# Altium schematic symbol library T-Transformer.SCHLIB: 3 symbols
Pins are listed as number, name and electrical type; pins without a type are passive.

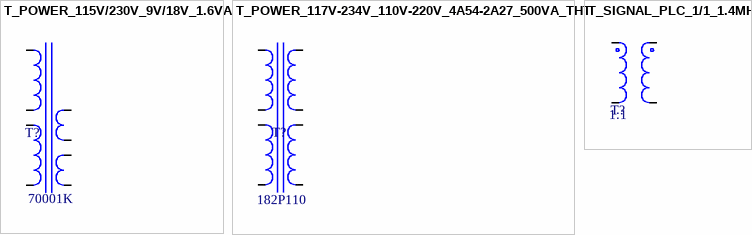
[diagram p0: symbols T_POWER_115V/230V_9V/18V_1.6VA to T_SIGNAL_PLC_1/1_1.4MH]

## T_POWER_115V/230V_9V/18V_1.6VA
designator T?  Type: 70001K  (hidden comment: T_POWER_115V/230V_9V/18V_1.6VA)
Supplier - Digikey: 1295-1036-ND
pins: 1, 2, 3, 4, 5, 6, 7, 8

## T_POWER_117V-234V_110V-220V_4A54-2A27_500VA_THT
designator T?  Type: 182P110  (hidden comment: T_POWER_117V-234V_110V-220V_4A54-2A27_500VA_THT)
Supplier - Digikey: 182P110-ND
footprint THT_TRANS_182P110 (Footprint for transformer 182P110)
pins: 1, 2, 3, 4, 5, 6, 7, 8

## T_SIGNAL_PLC_1/1_1.4MH
designator T?, comment value 1:1  (hidden comment: Transformers Audio & Signal PLC Transf THT flat 1.4mH 1:1)
Type: T60403-K4081-X004; Supplier - Mouser: 983-T60403-K4081X004
footprint THT_TRANS_T60403-K4081-X004
pins: 1, 4, 5, 8